# EAGLE library part LDB212G4010C-001 (library CPSBoard)
Murata Electronics LDB212G4010C-001 Chip Multilayer Hybrid Balun 6-Pin
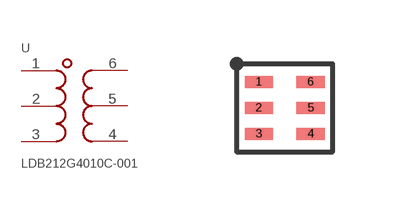
[diagram p3: symbol with the pads of LDB21-FOOTPRINT; footprint LDB21-FOOTPRINT]

Designator prefix -

## LDB212G4010C-001  [LDB21-FOOTPRINT]
1  1
2  2  sup
3  3
4  4
5  5  sup
6  6  nc

## Footprint LDB21-FOOTPRINT (pad centres in mm)
Footprint for Murata Electronics LDB212G4010C-001 Chip Multilayer Hybrid Balun 6-Pin http://www.murata.com/products/catalog/pdf/k99/k99e_s0800.pdf
smd 0.7 x 0.3: 1 -0.65,0.65; 2 -0.65,0; 3 -0.65,-0.65; 4 0.65,-0.65; 5 0.65,0; 6 0.65,0.65